# EAGLE library part BLACK_PILL (library Custom_old)
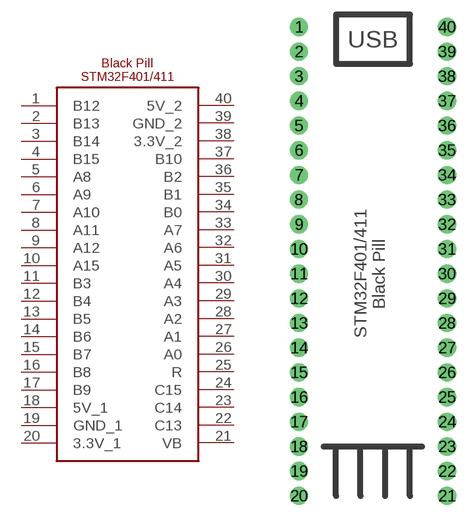
[diagram p32: symbol with the pads of BLACK_PILL; footprint BLACK_PILL]

Designator prefix -

## BLACK_PILL  [BLACK_PILL]
1  B12
2  B13
3  B14
4  B15
5  A8
6  A9
7  A10
8  A11
9  A12
10  A15
11  B3
12  B4
13  B5
14  B6
15  B7
16  B8
17  B9
18  5V_1
19  GND_1
20  3.3V_1
21  VB
22  C13
23  C14
24  C15
25  R
26  A0
27  A1
28  A2
29  A3
30  A4
31  A5
32  A6
33  A7
34  B0
35  B1
36  B2
37  B10
38  3.3V_2
39  GND_2
40  5V_2

## Footprint BLACK_PILL (pad centres in mm)
drill 1.016 pad 1.88: 1 -7.62,25.4; 2 -7.62,22.86; 3 -7.62,20.32; 4 -7.62,17.78; 5 -7.62,15.24; 6 -7.62,12.7; 7 -7.62,10.16; 8 -7.62,7.62; 9 -7.62,5.08; 10 -7.62,2.54; 11 -7.62,0; 12 -7.62,-2.54; 13 -7.62,-5.08; 14 -7.62,-7.62; 15 -7.62,-10.16; 16 -7.62,-12.7; 17 -7.62,-15.24; 18 -7.62,-17.78; 19 -7.62,-20.32; 20 -7.62,-22.86; 21 7.62,-22.86; 22 7.62,-20.32; 23 7.62,-17.78; 24 7.62,-15.24; 25 7.62,-12.7; 26 7.62,-10.16; 27 7.62,-7.62; 28 7.62,-5.08; 29 7.62,-2.54; 30 7.62,0; 31 7.62,2.54; 32 7.62,5.08; 33 7.62,7.62; 34 7.62,10.16; 35 7.62,12.7; 36 7.62,15.24; 37 7.62,17.78; 38 7.62,20.32; 39 7.62,22.86; 40 7.62,25.4